# EAGLE library part PSS-430256-10 (library tm-HIROSUGI)
HIROSUGI PBT4830 PINHEAD PSS-43 Pin 2.54mm pitch straight (3 rows) 10 Columns
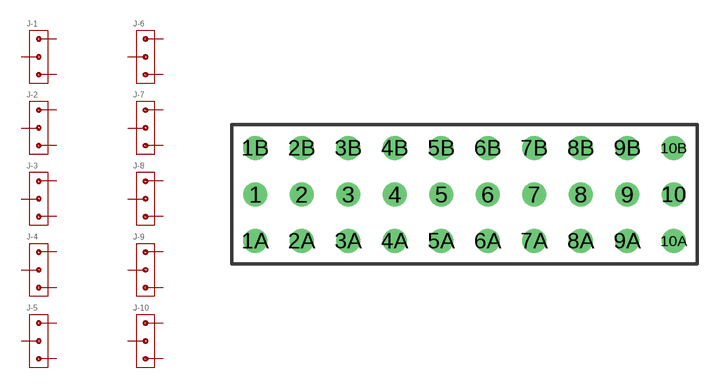
[diagram p0: symbol with the pads of PSS-430256-10; footprint PSS-430256-10]

Designator prefix J; gates -1=PSS-430256-10 -2=PSS-430256-10 -3=PSS-430256-10 -4=PSS-430256-10 -5=PSS-430256-10 -6=PSS-430256-10 -7=PSS-430256-10 -8=PSS-430256-10 -9=PSS-430256-10 -10=PSS-430256-10

## PSS-430256-10  [PSS-430256-10]
1  -1:X
1A  -1:A
1B  -1:B
2  -2:X
2A  -2:A
2B  -2:B
3  -3:X
3A  -3:A
3B  -3:B
4  -4:X
4A  -4:A
4B  -4:B
5  -5:X
5A  -5:A
5B  -5:B
6  -6:X
6A  -6:A
6B  -6:B
7  -7:X
7A  -7:A
7B  -7:B
8  -8:X
8A  -8:A
8B  -8:B
9  -9:X
9A  -9:A
9B  -9:B
10  -10:X
10A  -10:A
10B  -10:B

## Footprint PSS-430256-10 (pad centres in mm)
HIROSUGI PBT4830 PINHEAD PSS-43 Pin 2.54mm pitch straight (3 rows) 10 Columns
drill 0.8: 1 -8.89,0; 1A -8.89,-2.54; 1B -8.89,2.54; 2 -6.35,0; 2A -6.35,-2.54; 2B -6.35,2.54; 3 -3.81,0; 3A -3.81,-2.54; 3B -3.81,2.54; 4 -1.27,0; 4A -1.27,-2.54; 4B -1.27,2.54; 5 1.27,0; 5A 1.27,-2.54; 5B 1.27,2.54; 6 3.81,0; 6A 3.81,-2.54; 6B 3.81,2.54; 7 6.35,0; 7A 6.35,-2.54; 7B 6.35,2.54; 8 8.89,0; 8A 8.89,-2.54; 8B 8.89,2.54; 9 11.43,0; 9A 11.43,-2.54; 9B 11.43,2.54; 10 13.97,0; 10A 13.97,-2.54; 10B 13.97,2.54